# Altium footprint library RCDQLY.PCBLIB: 149 footprints (part 10 of 10)
Each footprint in its own frame and in the unit in brackets; x right, y up, seen from the top. Pads: shape width x height; smd on the part's side, far side on the other; paste and mask are expansions set on the pad; w line width, h text height; cw(c..) or ccw(c..) is an arc to the next point about the centre after c.
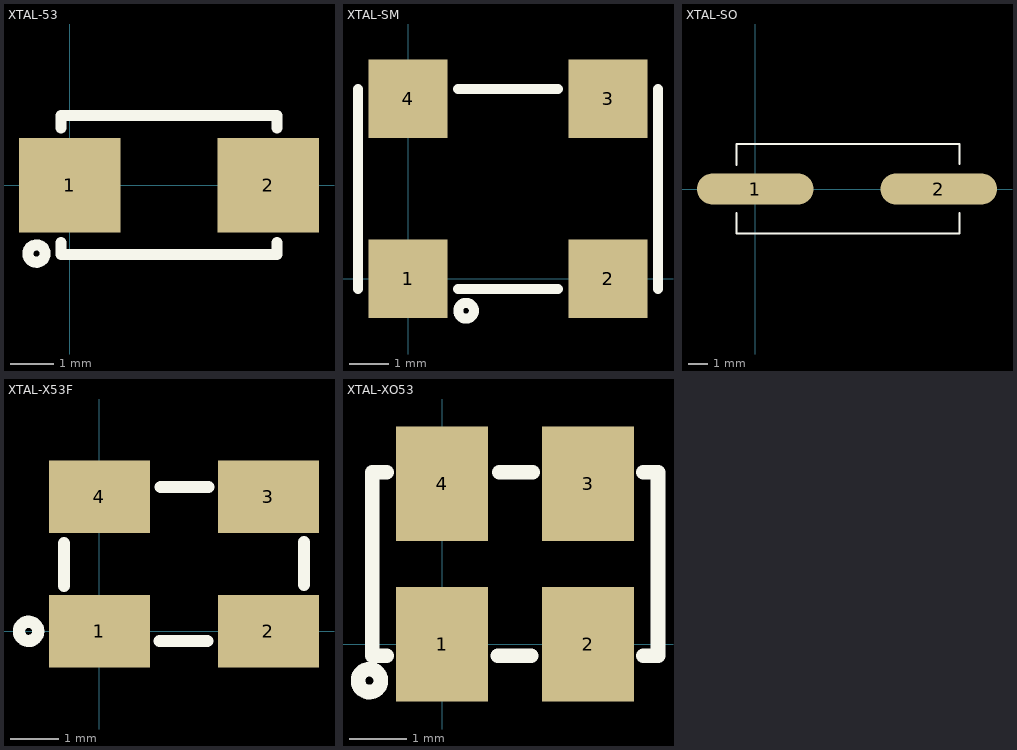
[diagram p9: the footprints below, top view; thin cyan lines are the x and y axes]

## XTAL-53 [mil]
pads (2):
  rect 92x86 smd: 1(0,0) 2(180,0)
TopOverlay:
  circle w10: c-30.14,-62 r7.86
  lines w10: -8,-52 -8,-63 188,-63 188,-52 ; -8,52 -8,63 188,63 188,52

## XTAL-SM [mm]
pads (4):
  rect 2x2 smd: 1(0,0) 2(5.08,0) 3(5.08,4.572) 4(0,4.572)
TopOverlay:
  circle w0.254: c1.477,-0.813 r0.2
  lines w0.254: -1.27,-0.254 -1.27,4.826 ; 1.27,-0.254 3.81,-0.254 ; 1.27,4.826 3.81,4.826 ; 6.35,-0.254 6.35,4.826

## XTAL-SO [mil]
pads (2):
  oval 236x63 smd: 1(0,0) 2(371,0)
TopOverlay:
  lines w4: -38,-49 -38,-90 413,-90 413,-49 ; -38,49 -38,91 413,91 413,51

## XTAL-X53F [mm]
pads (4):
  rect 2.1x1.5 smd: 1(0,0) 2(3.505,0) 3(3.505,2.794) 4(0,2.794)
TopOverlay:
  circle w0.254: c-1.47,0 r0.2
  lines w0.254: -0.737,0.94 -0.737,1.829 ; 1.245,-0.203 2.235,-0.203 ; 1.27,2.997 2.261,2.997 ; 4.242,0.965 4.242,1.854

## XTAL-XO53 [mm]
pads (4):
  rect 1.6x2 smd: 1(0,0) 2(2.54,0) 3(2.54,2.794) 4(0,2.794)
TopOverlay:
  circle w0.254: c-1.267,-0.635 r0.2
  lines w0.254: -0.965,-0.203 -1.219,-0.203 -1.219,2.997 -0.965,2.997 ; 0.965,-0.203 1.549,-0.203 ; 0.991,2.997 1.575,2.997 ; 3.505,-0.203 3.759,-0.203 3.759,2.997 3.505,2.997